# EAGLE library part MCP2561-E/SN (library MCP2561-E_SN)
MCP2561 Series High-Speed 1 Mbps 5 V 5 uA CAN Transceiver - SOIC-8 Check prices <https://snapeda.com/parts/MCP2561-E/SN/Microchip/view-part/?ref=eda>
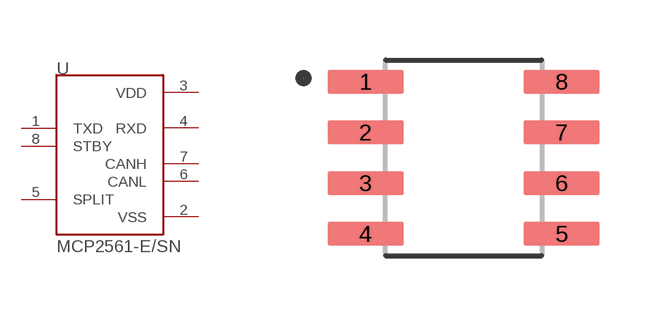
[diagram p0: symbol with the pads of SOIC127P600X175-8N; footprint SOIC127P600X175-8N]

Designator prefix U

## MCP2561-E/SN (Availability: Good; Description: 1/1 Transceiver Half CANbus 8-SOIC; DigiKey-Purchase-URL: https://snapeda.com/shop?store=DigiKey&id=46593; MF: Microchip; MP: MCP2561-E/SN; Mouser-Purchase-URL: https://snapeda.com/shop?store=Mouser&id=46593; Package: SOIC-8 Microchip; Price: None)  [SOIC127P600X175-8N]
1  TXD  in
2  VSS  pwr
3  VDD  pwr
4  RXD  out
5  SPLIT  pas
6  CANL
7  CANH
8  STBY  in

## Footprint SOIC127P600X175-8N (pad centres in mm)
smd 1.9 x 0.6: 1 -2.455,1.905; 2 -2.455,0.635; 3 -2.455,-0.635; 4 -2.455,-1.905; 5 2.455,-1.905; 6 2.455,-0.635; 7 2.455,0.635; 8 2.455,1.905